# EAGLE library part MCV_05/8-G-2,5 (library con-phoenix-250)
Mini-Combicon 2.50mm 8polig MC(V) 0,5/8-G-2,5
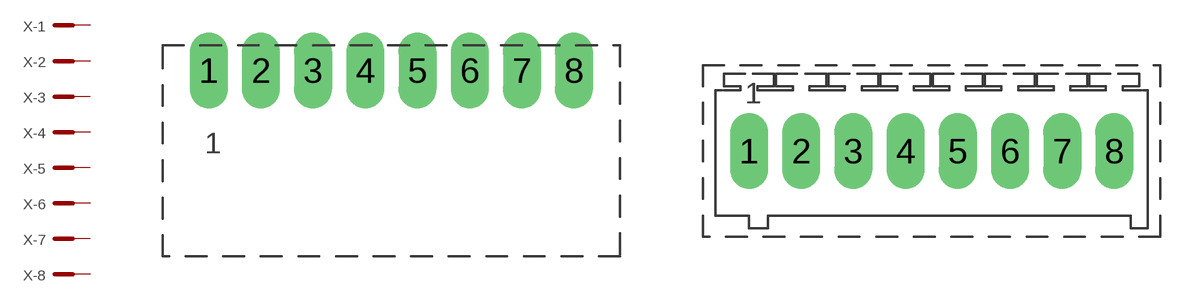
[diagram p4: symbol with the pads of MC8; footprints MC8, MCV8]

Designator prefix X; gates -1=MCST -2=MCST -3=MCST -4=MCST -5=MCST -6=MCST -7=MCST -8=MCST

## MCV_05/8-G-2,5  [MC8]
1  -1:SK  pas
2  -2:SK  pas
3  -3:SK  pas
4  -4:SK  pas
5  -5:SK  pas
6  -6:SK  pas
7  -7:SK  pas
8  -8:SK  pas

## MCV_05/8-G-2,5V  [MCV8]
Pads as for MC8

## Footprint MC8 (pad centres in mm)
Mini-Combicon 2.50mm 8-polig
drill 1.22 pad 1.676 long: 1 -7.5,0; 2 -5,0; 3 -2.5,0; 4 0,0; 5 2.5,0; 6 5,0; 7 7.5,0; 8 10,0

## Footprint MCV8 (pad centres in mm)
Mini-Combicon 2.50mm vertikal 8-polig
drill 1.22 pad 1.676 long: 1 -7.5,0; 2 -5,0; 3 -2.5,0; 4 0,0; 5 2.5,0; 6 5,0; 7 7.5,0; 8 10,0